# EAGLE library part SD_GT126 (library Eagle_UOF_Lib)
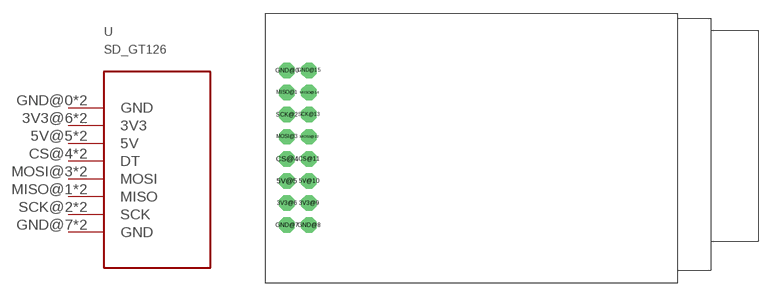
[diagram p0: symbol with the pads of SD_GT126; footprint SD_GT126]

Designator prefix -

## SD_GT126  [SD_GT126]
3V3@6  3V3
3V3@9  3V3
5V@5  5V
5V@10  5V
CS@4  DT
CS@11  DT
GND@0  GND
GND@7  GND
GND@8  GND
GND@15  GND
MISO@1  MISO
MISO@14  MISO
MOSI@3  MOSI
MOSI@12  MOSI
SCK@2  SCK
SCK@13  SCK

## Footprint SD_GT126 (pad centres in mm)
drill 1.016 pad 1.778 octagon: 3V3@6 2.54,-6.35; 3V3@9 5.08,-6.35; 5V@5 2.54,-3.81; 5V@10 5.08,-3.81; CS@4 2.54,-1.27; CS@11 5.08,-1.27; GND@0 2.54,8.89; GND@7 2.54,-8.89; GND@8 5.08,-8.89; GND@15 5.08,8.89; MISO@1 2.54,6.35; MISO@14 5.08,6.35; MOSI@3 2.54,1.27; MOSI@12 5.08,1.27; SCK@2 2.54,3.81; SCK@13 5.08,3.81